# Altium footprint library EPC_2019Q3.pcblib: 22 footprints (part 2 of 2)
Each footprint in its own frame and in the unit in brackets; x right, y up, seen from the top. Pads: shape width x height; smd on the part's side, far side on the other; paste and mask are expansions set on the pad; w line width, h text height; cw(c..) or ccw(c..) is an arc to the next point about the centre after c.
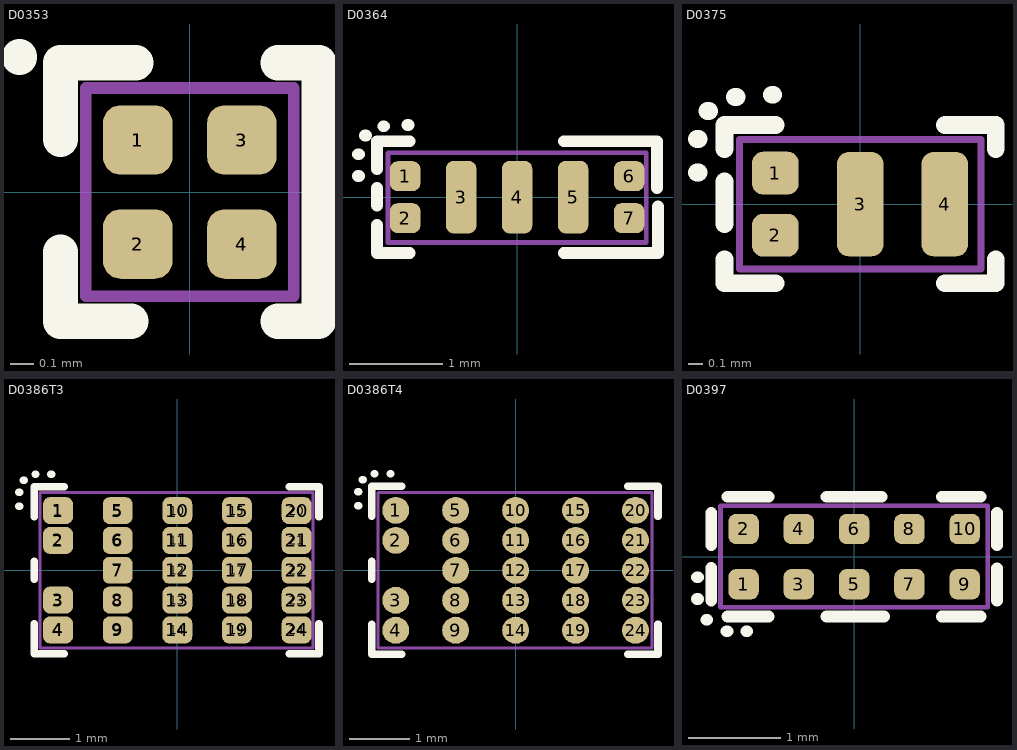
[diagram p1: the footprints below, top view; thin cyan lines are the x and y axes]

## D0353 [mm]
pads (8):
  rrect50% 0.3x0.3 smd paste-0.025 mask-0.148: 1(-0.225,0.225) 2(-0.225,-0.225) 3(0.225,0.225) 4(0.225,-0.225)
  round 0.2 on Top Solder paste+0 mask+0: 1(-0.225,0.225) 2(-0.225,-0.225) 3(0.225,0.225) 4(0.225,-0.225)
Top Overlay:
  circle w0.152: c-0.738,0.584 r0.001
  lines w0.152: -0.559,-0.559 -0.559,-0.259 ; -0.559,0.229 -0.559,0.559 -0.233,0.559 ; -0.554,-0.559 -0.254,-0.559 ; 0.381,-0.559 0.556,-0.559 ; 0.381,0.559 0.559,0.559 0.559,-0.542
Mechanical 13:
  lines w0.05: -0.45,0.447 -0.447,0.45 ; -0.45,-0.45 0.45,-0.45 0.45,0.45 -0.45,0.45 -0.45,-0.45
3D body: height 0.81, standoff 0.17, extent -0.45,-0.45 0.45,0.45
3D body: height 0.85, standoff 0.15, extent -0.374,0.075 -0.075,0.375

## D0364 [mm]
height 0.8
pads (14):
  rrect50% 0.326x0.32 smd paste-0.048 mask-0.326: 1(-1.2,0.225) 2(-1.2,-0.225) 6(1.2,0.225) 7(1.2,-0.225)
  rrect50% 0.326x0.776 smd paste-0.048 mask-0.326: 3(-0.6,0) 4(0,0) 5(0.6,0)
  round 0.23 on Top Solder paste+0 mask+0: ""(-1.2,-0.225) ""(-1.2,0.225) ""(1.2,-0.225) ""(1.2,0.225)
  oval 0.23x0.68 on Top Solder: ""(-0.6,0) ""(0,0) ""(0.6,0)
Top Overlay:
  lines w0.127: -1.705,0.225 -1.695,0.225 ; -1.705,0.46 -1.695,0.46 ; -1.63,0.66 -1.62,0.66 ; -1.5,-0.3 -1.5,-0.6 -1.15,-0.6 ; -1.5,-0.09 -1.5,0.1 ; -1.5,0.3 -1.5,0.6 -1.15,0.6 ; -1.435,0.76 -1.425,0.76 ; -1.175,0.775 -1.165,0.775 ; 0.5,-0.6 1.5,-0.6 ; 0.5,0.6 1.5,0.6 1.5,0.1 ; 1.51,-0.6 1.51,-0.1
Mechanical 13:
  lines w0.05: -1.383,-0.485 1.383,-0.485 ; -1.383,-0.475 -1.383,0.475 1.383,0.475 1.383,-0.475
3D body: height 0.81, standoff 0.1, extent -1.37,-0.48 1.38,0.48
3D body: height 0.85, standoff 0.15, extent -1.349,0.075 -1.05,0.375

## D0375 [mm]
height 0.8
pads (8):
  rrect50% 0.329x0.304 smd paste-0.048 mask-0.329: 1(-0.6,0.22) 2(-0.6,-0.22)
  rrect50% 0.329x0.738 smd paste-0.048 mask-0.329: 3(0,0) 4(0.6,0)
  round 0.234 on Top Solder paste+0 mask+0: ""(-0.6,-0.205) ""(-0.6,0.205)
  oval 0.234x0.643 on Top Solder paste+0 mask+0: ""(0,0)
  oval 0.234x0.643 on Top Solder: ""(0.6,0)
Top Overlay:
  lines w0.127: -1.155,0.225 -1.145,0.225 ; -1.155,0.46 -1.145,0.46 ; -1.08,0.66 -1.07,0.66 ; -0.96,-0.39 -0.96,-0.56 -0.6,-0.56 ; -0.96,-0.14 -0.96,0.16 ; -0.96,0.39 -0.96,0.56 -0.6,0.56 ; -0.885,0.76 -0.875,0.76 ; -0.625,0.775 -0.615,0.775 ; 0.6,-0.56 0.96,-0.56 0.96,-0.39 ; 0.6,0.56 0.96,0.56 0.96,0.39
Mechanical 13:
  lines w0.05: -0.855,-0.46 -0.855,0.46 0.855,0.46 0.855,-0.46 -0.855,-0.46
3D body: height 0.81, standoff 0.1, extent -0.85,-0.45 0.85,0.45
3D body: height 0.85, standoff 0.15, extent -0.749,0.07 -0.45,0.37

## D0386T3 [mm]
height 0.8
pads (48):
  rrect50% 0.5x0.45 smd paste-0.075 mask-0.25: 1(-2,1) 2(-2,0.5) 3(-2,-0.5) 4(-2,-1) 5(-1,1) 6(-1,0.5) 7(-1,0) 8(-1,-0.5) 9(-1,-1) 10(0,1) 11(0,0.5) 12(0,0) 13(0,-0.5) 14(0,-1) 15(1,1) 16(1,0.5) 17(1,0) 18(1,-0.5) 19(1,-1) 20(2,1) 21(2,0.5) 22(2,0) 23(2,-0.5) 24(2,-1)
  round 0.33 on Top Solder paste-0.17 mask+0: 1(-2,1) 2(-2,0.5) 3(-2,-0.5) 4(-2,-1) 5(-1,1)
  round 0.33 on Top Solder paste-0.17 mask-0.06: 6(-1,0.5) 7(-1,0) 8(-1,-0.5) 9(-1,-1) 10(0,1) 11(0,0.5) 12(0,0) 13(0,-0.5) 14(0,-1) 15(1,1) 16(1,0.5) 17(1,0) 18(1,-0.5) 19(1,-1) 20(2,1) 21(2,0.5) 22(2,0) 23(2,-0.5) 24(2,-1)
Top Overlay:
  lines w0.127: -2.655,1.075 -2.645,1.075 ; -2.655,1.31 -2.645,1.31 ; -2.58,1.51 -2.57,1.51 ; -2.4,-0.9 -2.4,-1.4 -1.9,-1.4 ; -2.4,0.9 -2.4,1.4 -1.9,1.4 ; -2.385,1.61 -2.375,1.61 ; -2.12,1.61 -2.11,1.61 ; 1.875,-1.4 2.375,-1.4 2.375,-0.9 ; 1.875,1.4 2.375,1.4 2.375,0.9 ; -2.4,-0.15 -2.4,0.15 -2.4,-0.15
Mechanical 13:
  lines w0.05: -2.3,-1.3 -2.3,1.3 2.275,1.3 2.275,-1.3 -2.3,-1.3
3D body: height 0.33, standoff -0.04, extent -2.176,-1.182 -1.815,-0.818
3D body: height 0.84, standoff 0.83, extent -2.149,0.85 -1.85,1.15
3D body: height 0.33, standoff -0.04, extent -2.176,0.818 -1.815,1.182
3D body: height 0.83, standoff 0.28, extent -2.3,-1.3 2.275,1.3
3D body: height 0.33, standoff -0.04, extent -2.176,0.318 -1.815,0.682
3D body: height 0.33, standoff -0.04, extent -2.176,-0.682 -1.815,-0.318
3D body: height 0.33, standoff -0.04, extent -1.176,0.818 -0.815,1.182
3D body: height 0.33, standoff -0.04, extent -1.176,0.318 -0.815,0.682
3D body: height 0.33, standoff -0.04, extent -1.176,-0.182 -0.815,0.182
3D body: height 0.33, standoff -0.04, extent -1.176,-0.682 -0.815,-0.318
3D body: height 0.33, standoff -0.04, extent -1.176,-1.182 -0.815,-0.818
3D body: height 0.33, standoff -0.04, extent -0.176,-1.182 0.185,-0.818
3D body: height 0.33, standoff -0.04, extent -0.176,-0.682 0.185,-0.318
3D body: height 0.33, standoff -0.04, extent -0.176,-0.182 0.185,0.182
3D body: height 0.33, standoff -0.04, extent -0.176,0.318 0.185,0.682
3D body: height 0.33, standoff -0.04, extent -0.176,0.818 0.185,1.182
3D body: height 0.33, standoff -0.04, extent 0.824,-1.182 1.185,-0.818
3D body: height 0.33, standoff -0.04, extent 0.824,-0.682 1.185,-0.318
3D body: height 0.33, standoff -0.04, extent 0.824,-0.182 1.185,0.182
3D body: height 0.33, standoff -0.04, extent 0.824,0.318 1.185,0.682
3D body: height 0.33, standoff -0.04, extent 0.824,0.818 1.185,1.182
3D body: height 0.33, standoff -0.04, extent 1.824,-1.182 2.185,-0.818
3D body: height 0.33, standoff -0.04, extent 1.824,-0.682 2.185,-0.318
3D body: height 0.33, standoff -0.04, extent 1.824,-0.182 2.185,0.182
3D body: height 0.33, standoff -0.04, extent 1.824,0.318 2.185,0.682
3D body: height 0.33, standoff -0.04, extent 1.824,0.818 2.185,1.182

## D0386T4 [mm]
height 0.8
pads (24):
  round 0.45 smd paste-0.06 mask-0.06: 1(-2,1) 2(-2,0.5) 3(-2,-0.5) 4(-2,-1) 5(-1,1) 6(-1,0.5) 7(-1,0) 8(-1,-0.5) 9(-1,-1) 10(0,1) 11(0,0.5) 12(0,0) 13(0,-0.5) 14(0,-1) 15(1,1) 16(1,0.5) 17(1,0) 18(1,-0.5) 19(1,-1) 20(2,1) 21(2,0.5) 22(2,0) 23(2,-0.5) 24(2,-1)
Top Overlay:
  lines w0.127: -2.63,1.075 -2.62,1.075 ; -2.63,1.31 -2.62,1.31 ; -2.555,1.51 -2.545,1.51 ; -2.4,-0.9 -2.4,-1.4 -1.9,-1.4 ; -2.4,-0.15 -2.4,0.15 ; -2.4,0.9 -2.4,1.4 -1.9,1.4 ; -2.36,1.61 -2.35,1.61 ; -2.095,1.61 -2.085,1.61 ; 1.875,-1.4 2.375,-1.4 2.375,-0.9 ; 1.875,1.4 2.375,1.4 2.375,0.9
Mechanical 13:
  lines w0.05: -2.3,-1.3 -2.3,1.3 2.275,1.3 2.275,-1.3 -2.3,-1.3
3D body: height 0.33, standoff -0.04, extent 1.824,0.818 2.185,1.182
3D body: height 0.33, standoff -0.04, extent 1.824,0.318 2.185,0.682
3D body: height 0.33, standoff -0.04, extent 1.824,-0.182 2.185,0.182
3D body: height 0.33, standoff -0.04, extent 1.824,-0.682 2.185,-0.318
3D body: height 0.33, standoff -0.04, extent 1.824,-1.182 2.185,-0.818
3D body: height 0.33, standoff -0.04, extent 0.824,0.818 1.185,1.182
3D body: height 0.33, standoff -0.04, extent 0.824,0.318 1.185,0.682
3D body: height 0.33, standoff -0.04, extent 0.824,-0.182 1.185,0.182
3D body: height 0.33, standoff -0.04, extent 0.824,-0.682 1.185,-0.318
3D body: height 0.33, standoff -0.04, extent 0.824,-1.182 1.185,-0.818
3D body: height 0.33, standoff -0.04, extent -0.176,0.818 0.185,1.182
3D body: height 0.33, standoff -0.04, extent -0.176,0.318 0.185,0.682
3D body: height 0.33, standoff -0.04, extent -0.176,-0.182 0.185,0.182
3D body: height 0.33, standoff -0.04, extent -0.176,-0.682 0.185,-0.318
3D body: height 0.33, standoff -0.04, extent -0.176,-1.182 0.185,-0.818
3D body: height 0.33, standoff -0.04, extent -1.176,-1.182 -0.815,-0.818
3D body: height 0.33, standoff -0.04, extent -1.176,-0.682 -0.815,-0.318
3D body: height 0.33, standoff -0.04, extent -1.176,-0.182 -0.815,0.182
3D body: height 0.33, standoff -0.04, extent -1.176,0.318 -0.815,0.682
3D body: height 0.33, standoff -0.04, extent -1.176,0.818 -0.815,1.182
3D body: height 0.33, standoff -0.04, extent -2.176,-0.682 -1.815,-0.318
3D body: height 0.33, standoff -0.04, extent -2.176,0.318 -1.815,0.682
3D body: height 0.83, standoff 0.28, extent -2.3,-1.3 2.275,1.3
3D body: height 0.33, standoff -0.04, extent -2.176,0.818 -1.815,1.182
3D body: height 0.84, standoff 0.83, extent -2.149,0.85 -1.85,1.15
3D body: height 0.33, standoff -0.04, extent -2.176,-1.182 -1.815,-0.818

## D0397 [mm] "Gen 5 200 V ICs"
height 0.8
pads (20):
  rrect50% 0.33x0.33 smd paste-0.015 mask-0.165: 1(-1.2,-0.3) 2(-1.2,0.3) 3(-0.6,-0.3) 4(-0.6,0.3) 5(0,-0.3) 6(0,0.3) 7(0.6,-0.3) 8(0.6,0.3) 9(1.2,-0.3) 10(1.2,0.3)
  round 0.23 on Top Solder paste-0.125 mask+0: ""(-1.2,-0.3) ""(-1.2,0.3) ""(-0.6,-0.3) ""(-0.6,0.3) ""(0,-0.3) ""(0,0.3) ""(0.6,-0.3) ""(0.6,0.3) ""(1.2,-0.3) ""(1.2,0.3)
Top Overlay:
  lines w0.127: -1.705,-0.46 -1.695,-0.46 ; -1.705,-0.225 -1.695,-0.225 ; -1.605,-0.685 -1.595,-0.685 ; -1.55,-0.475 -1.55,-0.12 ; -1.55,0.125 -1.55,0.475 ; -1.385,-0.81 -1.375,-0.81 ; -1.375,-0.65 -0.925,-0.65 ; -1.375,0.65 -0.925,0.65 ; -1.17,-0.81 -1.16,-0.81 ; -0.3,-0.65 0.325,-0.65 ; -0.3,0.65 0.3,0.65 ; 0.95,-0.65 1.375,-0.65 ; 0.95,0.65 1.375,0.65 ; 1.55,-0.475 1.55,-0.125 ; 1.55,0.125 1.55,0.475
Mechanical 13:
  lines w0.05: -1.45,-0.55 1.45,-0.55 1.45,0.55 -1.45,0.55 -1.45,-0.55
3D body: height 0.81, standoff 0.1, extent -1.45,-0.55 1.45,0.55
3D body: height 0.85, standoff 0.15, extent -1.349,-0.45 -1.05,-0.15